# Altium schematic symbol library Battery.SchLib: 6 symbols
Pins are listed as number, name and electrical type; pins without a type are passive.

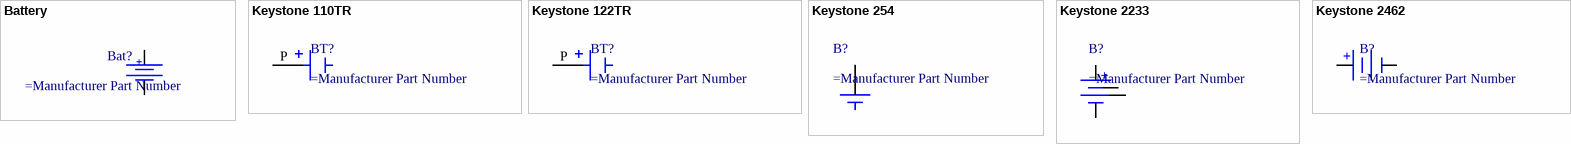
[diagram p0: symbols Battery to Keystone 2462]

## Battery
designator Bat?
Bat Holder
footprint CR2032 SMD
footprint CR-2450/G1AN
footprint KEYSTONE 2462
footprint Keystone 2233
footprint KEYSTONE 3010
pins: 1, 2
text: +

## Keystone 110TR
designator BT?
Battery Contact,Positive Enclosure,12mm to 30mm Dia,Tape & Reel | Keystone Electronics 110TR
footprint KEYSTONE 110TR (SURFACE MOUNT (SMT) COIN CELL ENCLOSURE CONTACTS)
pins: P POS

## Keystone 122TR
designator BT?
Positive Contact,Tall Enclosure,5.0mm +,Stainless Steel,SMT Mounting | Keystone Electronics 122TR
footprint KEYSTONE 122TR
pins: P POS

## Keystone 254
designator B?
footprint KEYSTONE 254
pins: P1 POS, P2 POS

## Keystone 2233
designator B?
footprint Keystone 2233
pins: 1 +, 2 -, 3 -, 4 +

## Keystone 2462
designator B?
footprint KEYSTONE 2462
pins: 1 +, 2 -